# Altium footprint library buck_automotive.PcbLib: 5 footprints
Each footprint in its own frame and in the unit in brackets; x right, y up, seen from the top. Pads: shape width x height; smd on the part's side, far side on the other; paste and mask are expansions set on the pad; w line width, h text height; cw(c..) or ccw(c..) is an arc to the next point about the centre after c.
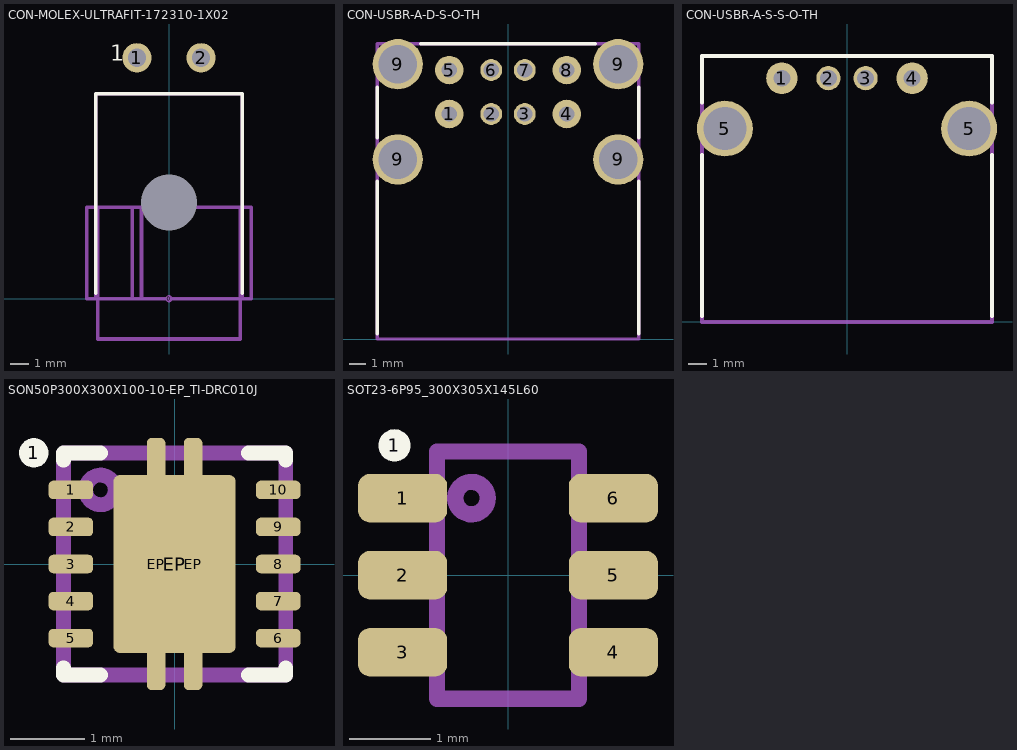
[diagram p0: the footprints below, top view; thin cyan lines are the x and y axes]

## CON-MOLEX-ULTRAFIT-172310-1X02 [mm] "Molex Ultra-Fit 2 pin, right angleblack"
pads (4):
  round 0.4 on Mech18: 0(0,0)
  round 0 hole 3.05 unplated: 0(0,5.25)
  round 1.6 hole 1: 1(-1.75,13.16) 2(1.75,13.16)
Top Overlay:
  lines w0.2: -4,0.3 -4,11.2 4,11.2 4,0.3
  text "1" at -3.222,12.687 h1.5
Bottom Overlay:
  text "1" at -2.853,12.67 h1.5
Top Assembly:
  lines w0.2: -4,5 -4.5,5 -4.5,0 -4,0 ; -2,0 -2,5 -1.5,5 -1.5,0 ; 4,5 4.5,5 4.5,0 4,0 ; -4,0 4,0 ; -4,0 -4,11.2 4,11.2 4,0 ; -3.9,-2.2 3.9,-2.2 3.9,5 -3.9,5 -3.9,-2.2
3D body "1723101202.stp": height 8.96, standoff -3.2, extent -4.5,-2.15 4.5,13.478

## CON-USBR-A-D-S-O-TH [mm] "Samtec USBR-A-D-S-O-TH"
pads (12):
  round 1.7 hole 0.9: 1(-3.5,13.41) 4(3.5,13.41) 5(-3.5,16.03) 8(3.5,16.03)
  round 1.3 hole 0.9: 2(-1,13.41) 3(1,13.41) 6(-1,16.03) 7(1,16.03)
  round 3 hole 2.3: 9(-6.57,10.7) 9(-6.57,16.38) 9(6.57,10.7) 9(6.57,16.38)
Top Overlay:
  lines w0.2: -7.8,0.3 -7.8,9.4 ; -7.8,12 -7.8,15 ; -5.2,17.6 5.2,17.6 ; 7.8,0.3 7.8,9.4 ; 7.8,12 7.8,15
Top Assembly:
  lines w0.2: -7.8,0 7.8,0 7.8,17.6 -7.8,17.6 -7.8,0
3D body "USBR-A-D-S-O-TH.stp": height 16.1, standoff -4.2, extent -7.798,0 7.798,17.65

## CON-USBR-A-S-S-O-TH [mm] "Samtec USBR-A-S-S-O-TH"
pads (6):
  round 1.7 hole 0.9: 1(-3.5,13.11) 4(3.5,13.11)
  round 1.3 hole 0.9: 2(-1,13.11) 3(1,13.11)
  round 3 hole 2.3: 5(-6.57,10.4) 5(6.57,10.4)
Top Overlay:
  lines w0.2: -7.8,0.3 -7.8,9 ; -7.8,11.8 -7.8,14.3 7.8,14.3 7.8,11.8 ; 7.8,0.3 7.8,9
Top Assembly:
  lines w0.2: -7.8,0 -7.8,14.3 7.8,14.3 7.8,0 -7.8,0
3D body "USBR-A-S-S-O-TH.stp": height 7.51, standoff -3.84, extent -7.848,0 7.848,14.3

## SON50P300X300X100-10-EP_TI-DRC010J [mm] "SON, 0.5mm Pitch, 3mm x 3mm, 1.0mm Height, 10 Pin, Exposed Pad (TI DRC010J)"
pads (14):
  round 0.4 on Top Overlay: 1(-1.9,1.5)
  rrect50% 0.6x0.25 smd: 1(-1.4,1) 2(-1.4,0.5) 3(-1.4,0) 4(-1.4,-0.5) 5(-1.4,-1) 6(1.4,-1) 7(1.4,-0.5) 8(1.4,0) 9(1.4,0.5) 10(1.4,1)
  rrect50% 0.25x3.4 smd: EP(-0.25,0) EP(0.25,0)
  rrect10% 1.65x2.4 smd: EP(0,0)
Top Overlay:
  lines w0.2: -1.5,-1.4 -1.5,-1.5 -1,-1.5 ; -1.5,1.4 -1.5,1.5 -1,1.5 ; 1,-1.5 1.5,-1.5 1.5,-1.4 ; 1,1.5 1.5,1.5 1.5,1.4
Top Assembly:
  circle w0.2: c-1,1 r0.2
  lines w0.2: -1.5,-1.5 1.5,-1.5 1.5,1.5 -1.5,1.5 -1.5,-1.5
3D body "DRC0010J.stp": height 1, standoff 0, extent -1.5,-1.5 1.5,1.5

## SOT23-6P95_300X305X145L60 [mm] "SOT23-6 (TI DBV0006A)"
pads (7):
  round 0.4 on Top Overlay: 1(-1.4,1.6)
  rrect50% 1.1x0.6 smd: 1(-1.3,0.95) 2(-1.3,0) 3(-1.3,-0.95) 4(1.3,-0.95) 5(1.3,0) 6(1.3,0.95)
Top Assembly:
  circle w0.2: c-0.45,0.95 r0.2
  lines w0.2: -0.875,-1.1 -1.5,-1.1 -1.5,-0.8 -0.875,-0.8 ; -0.875,-0.15 -1.5,-0.15 -1.5,0.15 -0.875,0.15 ; -0.875,0.8 -1.5,0.8 -1.5,1.1 -0.875,1.1 ; 0.875,-1.1 1.5,-1.1 1.5,-0.8 0.875,-0.8 ; 0.875,-0.15 1.5,-0.15 1.5,0.15 0.875,0.15 ; 0.875,0.8 1.5,0.8 1.5,1.1 0.875,1.1 ; -0.875,-1.525 -0.875,1.525 0.875,1.525 0.875,-1.525 -0.875,-1.525
3D body "DBV0006A.stp": height 1.2, standoff 0, extent -1.4,-1.45 1.4,1.45